# Altium schematic symbol library SY21299.SchLib: 1 symbol
Pins are listed as number, name and electrical type; pins without a type are passive.

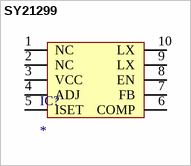
[diagram p0: symbol SY21299]

## SY21299
designator IC?
footprint DFN3x3-10 (DFN, 10-Leads, Body 3.00x3.00mm, Pitch 0.50mm, Thermal Pad 2.60x1.75mm, IPC Medium Density)
pins: 1 NC, 2 NC, 3 VCC, 4 ADJ, 5 ISET, 6 COMP, 7 FB, 8 EN, 9 LX, 10 LX